# Altium schematic symbol library MKS_Gen_Lib1.SchLib: 15 symbols
Pins are listed as number, name and electrical type; pins without a type are passive.

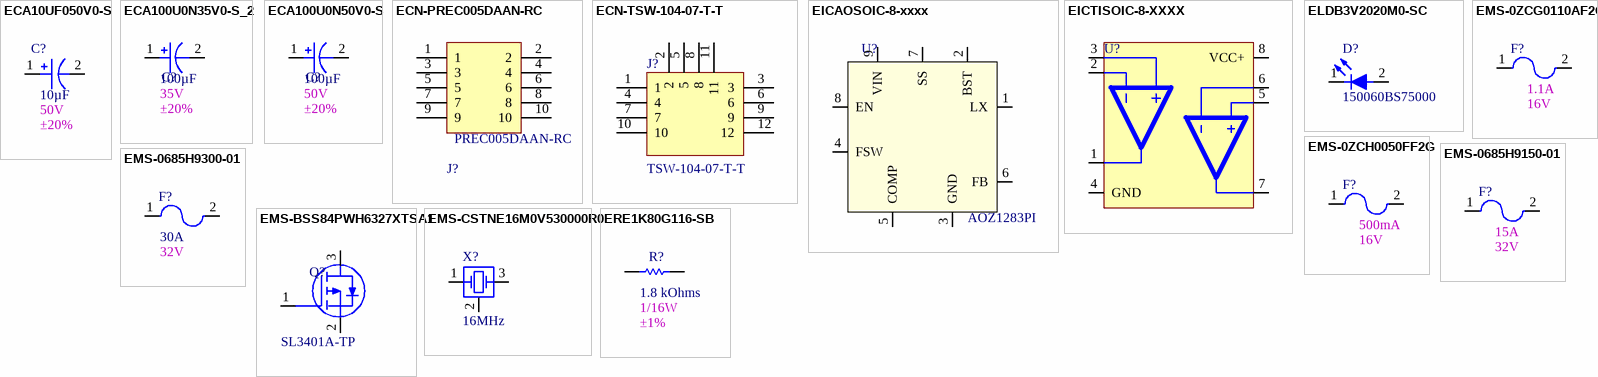
[diagram p0: symbols ECA10UF050V0-S to ERE1K80G116-SB]

## ECA10UF050V0-S
designator C?, comment value 10µF  2nd Auxiliary Field: ±20%  1st Auxiliary Field: 50V  (hidden comment: CAP 10 UF 20% 50 V)
Manufacturer: Würth Elektronik; Vendor Part Number: 732-8451-1-ND; Manufacturer Part Number: 865080642006; Internal Part Number: ECA10UF050V0-S; Vendor Name: Digi-Key; 3rd Auxiliary Field: ROHS3 Compliant; Component Height (mm): 5.50mm; Temp Co: -55°C ~ 105°C; Part Type: CAP 10 UF 20% 50 V
footprint CAPAE530X550N (Aluminum Electrolytic Capacitor, Body 5.30x5.30x5.50mm, IPC Medium Density)
pins: 1 +VE, 2 -VE

## ECA100U0N35V0-S_2
designator C?, comment value 100µF  1st Auxiliary Field: 35V  2nd Auxiliary Field: ±20%  (hidden comment: CAP ALUM 100UF 20% 35V SMD)
Manufacturer: SURGE; Manufacturer Part Number: VE-101M1VTR-0810S; Internal Part Number: ECA100U0N35V0-S_2; Vendor Part Number: 2616-VE-101M1VTR-0810S-ND; 3rd Auxiliary Field: ROHS3 Compliant; Component Height (mm): 10.50mm; Vendor Name: Digi-Key; Temp Co: -40°C ~ 85°C; Part Type: CAP ALUM 100UF 20% 35V SMD; 4th Auxiliary Field: *
footprint CAPAE830X1050N (Aluminum Electrolytic Capacitor, Body 8.30x8.30x10.50mm, IPC Medium Density)
pins: 1 +VE, 2 -VE

## ECA100U0N50V0-S
designator C?, comment value 100µF  1st Auxiliary Field: 50V  2nd Auxiliary Field: ±20%  (hidden comment: CAP ALUM 100UF 20% 50V SMD)
Manufacturer: SURGE; Manufacturer Part Number: VE-101M1HTR-0810S; Internal Part Number: ECA100U0N50V0-S; Vendor Part Number: 2616-VE-101M1HTR-0810S-ND; 3rd Auxiliary Field: ROHS3 Compliant; Component Height (mm): 10.50mm; Vendor Name: Digi-Key; Temp Co: -40°C ~ 85°C; Part Type: CAP ALUM 100UF 20% 50V SMD; 4th Auxiliary Field: *
footprint CAPAE830X1050N (Aluminum Electrolytic Capacitor, Body 8.30x8.30x10.50mm, IPC Medium Density)
pins: 1 +VE, 2 -VE

## ECN-PREC005DAAN-RC
designator J?, comment value PREC005DAAN-RC  (hidden comment: CONN HEADER VERT 10POS 2.54MM)
Manufacturer: Sullins Connector Solutions; Vendor Part Number: S2012EC-05-ND; Internal Part Number: ECN-PREC005DAAN-RC; 2nd Auxiliary Field: 0.100" (2.54mm); 3rd Auxiliary Field: ROHS3 Compliant; Vendor Name: Digi-Key; Component Height (mm): 8.34mm; Temp Co: -40°C ~ 105°C; 1st Auxiliary Field: 10Pos; Part Type: CONN HEADER VERT 10POS 2.54MM; Manufacturer Part Number: PREC005DAAN-RC
footprint HDRV10W64P254_2X5_1270X500X834P (CONN HEADER VERT 10POS 2.54MM)
pins: 1, 2, 3, 4, 5, 6, 7, 8, 9, 10

## ECN-TSW-104-07-T-T
designator J?, comment Manufacturer Part Number: TSW-104-07-T-T  (hidden comment: CONN HEADER VERT 12POS 2.54MM)
Manufacturer: Samtec Inc.; Internal Part Number: ECN-TSW-104-07-T-T; Vendor Part Number: SAM10848-ND; 2nd Auxiliary Field: 3 Rows; 3rd Auxiliary Field: ROHS3 Compliant; Component Height (mm): 8.38mm; Temp Co: -55°C ~ 105°C; Value: TSW-104-07-T-T; Vendor Name: Digi-Key; 1st Auxiliary Field: 12 Pos; Part Type: CONN HEADER VERT 12POS 2.54MM; 4th Auxiliary Field: *
footprint HDRV12W64P254_3X4_1016X762X838P (CONN HEADER VERT 12POS 2.54MM)
pins: 1, 2, 3, 4, 5, 6, 7, 8, 9, 10, 11, 12

## EICAOSOIC-8-xxxx
designator U?, comment value AOZ1283PI  (hidden comment: IC REG BUCK ADJUSTABLE 2.5A 8SO)
Manufacturer: Alpha & Omega Semiconductor Inc.; Internal Part Number: EICAOSOIC-8-xxxx; Vendor Part Number: 785-1803-1-ND; 3rd Auxiliary Field: ROHS3 Compliant; Component Height (mm): 5.80mm; Temp Co: -40°C ~ 85°C (TA); Vendor Name: Digi-Key; 1st Auxiliary Field: 3V~36V; Manufacturer Part Number: AOZ1283PI; Part Type: IC REG BUCK ADJUSTABLE 2.5A 8SO; 2nd Auxiliary Field: 2.5A
footprint SOIC127P600X170_HS-9N (SOIC, 8-Leads, Body 4.90x3.90mm, Pitch 1.27mm, Thermal Pad 3.60x2.61mm, IPC Medium Density)
pins: 1 LX (power), 2 BST (power), 3 GND (power), 4 FSW (power), 5 COMP (power), 6 FB (power), 7 SS (power), 8 EN (power), 9 VIN

## EICTISOIC-8-XXXX
designator U?, comment IC OPAMP GP 2 CIRCUIT 8SOIC  (value not drawn)
Manufacturer: Texas Instruments; Internal Part Number: EICTISOIC-8-XXXX; Vendor Part Number: 296-9571-1-ND; 3rd Auxiliary Field: ROHS3 Compliant; Component Height (mm): 1.75mm; Temp Co: -40°C ~ 125°C (TA); 4th Auxiliary Field: 40mA; Vendor Name: Digi-Key; 1st Auxiliary Field: 2.7V ~ 5.5V, ±1.35V ~ 2.75V; 2nd Auxiliary Field: 1MHz; Value: LMV358IDR; Part Type: IC OPAMP GP 2 CIRCUIT 8SOIC; Manufacturer Part Number: LMV358IDR
footprint SOIC127P600X175-8N (Footprint not found)
pins: 1 OUT, 2 1IN-, 3 1IN+, 4 GND, 5 2IN+, 6 2IN-, 7 2OUT, 8 VCC+

## ELDB3V2020M0-SC
designator D?, comment value 150060BS75000  (hidden comment: LED BLUE CLEAR 0603 SMD)
Manufacturer: Würth Elektronik; Vendor Part Number: 732-4966-1-ND; Internal Part Number: ELDB3V2020M0-SC; Vendor Name: Digi-Key; 1st Auxiliary Field: 3.2V; 2nd Auxiliary Field: 20mA; 3rd Auxiliary Field: ROHS3 Compliant; Component Height (mm): 0.80mm; Temp Co: -40°C ~ 85°C; Part Type: LED BLUE CLEAR 0603 SMD; Manufacturer Part Number: 150060BS75000; 4th Auxiliary Field: *
footprint SMDLED0603 (Footprint not found)
pins: 1 K, 2 A

## EMS-0ZCG0110AF2C
designator F?, comment 2nd Auxiliary Field: 1.1A  1st Auxiliary Field: 16V  (hidden comment: PTC RESET FUSE 16V 1.1A 1812)
Manufacturer Part Number: 0ZCG0110AF2C; Manufacturer: Bel Fuse Inc.; Internal Part Number: EMS-0ZCG0110AF2C; Vendor Part Number: 507-1767-1-ND; 3rd Auxiliary Field: RoHS3 Compliant; Component Height (mm): 0.90mm; Temp Co: -40°C ~ 85°C; 4th Auxiliary Field: 180 mOhms; Vendor Name: Digi-Key; Value: 0ZCG0110AF2C; Part Type: PTC RESET FUSE 16V 1.1A 1812
footprint SMDF1812 (Footprint not found)
pins: 1, 2

## EMS-0ZCH0050FF2G
designator F?, comment 2nd Auxiliary Field: 500mA  1st Auxiliary Field: 16V  (hidden comment: PTC RESET FUSE 16V 500MA 1210)
Manufacturer Part Number: 0ZCH0050FF2G; Manufacturer: Bel Fuse Inc.; Internal Part Number: EMS-0ZCH0050FF2G; Vendor Part Number: 507-1786-1-ND; 3rd Auxiliary Field: RoHS3 Compliant; Component Height (mm): 0.75mm; Temp Co: -40°C ~ 85°C; 4th Auxiliary Field: 900 mOhms; Vendor Name: Digi-Key; Value: 0ZCH0050FF2G; Part Type: PTC RESET FUSE 16V 500MA 1210
footprint SMDF1210 (Footprint not found)
pins: 1, 2

## EMS-0685H9150-01
designator F?, comment 2nd Auxiliary Field: 15A  1st Auxiliary Field: 32V  (hidden comment: FUSE BOARD MNT 15A 125VAC 32VDC)
Manufacturer Part Number: 0685H9150-01; Manufacturer: Bel Fuse Inc.; Internal Part Number: EMS-0685H9150-01; Vendor Part Number: 507-1944-1-ND; 3rd Auxiliary Field: RoHS3 Compliant; Component Height (mm): 0.65mm; Temp Co: -55°C ~ 125°C; Vendor Name: Digi-Key; Value: 0685H9150-01; Part Type: FUSE BOARD MNT 15A 125VAC 32VDC; 4th Auxiliary Field: 125V AC
footprint SMDF1206 (Footprint not found)
pins: 1, 2

## EMS-0685H9300-01
designator F?, comment value 30A  1st Auxiliary Field: 32V  (hidden comment: FUSE BOARD MNT 30A 125VAC 32VDC)
Manufacturer Part Number: 0685H9300-01; Manufacturer: Bel Fuse Inc.; Internal Part Number: EMS-0685H9300-01; Vendor Part Number: 507-1947-1-ND; 3rd Auxiliary Field: RoHS3 Compliant; Component Height (mm): 0.65mm; Temp Co: -55°C ~ 125°C; Vendor Name: Digi-Key; Part Type: FUSE BOARD MNT 30A 125VAC 32VDC; 4th Auxiliary Field: 125V AC; 2nd Auxiliary Field: 30A
footprint SMDF1206 (Footprint not found)
pins: 1, 2

## EMS-BSS84PWH6327XTSA1
designator Q?, comment value SL3401A-TP  (hidden comment: P-CHANNEL MOSFET, SOT-23-3L)
Manufacturer: Micro Commercial Co; Internal Part Number: EMS-SL3401A-TP; Vendor Part Number: 353-SL3401A-TPCT-ND; 1st Auxiliary Field: 30V; 2nd Auxiliary Field: 4.4A; 3rd Auxiliary Field: ROHS3 Compliant; Component Height (mm): 1.25mm; Temp Co: -55°C ~ 150°C (TJ); 4th Auxiliary Field: 1.5W; Vendor Name: Digi-Key; Part Type: P-CHANNEL MOSFET, SOT-23-3L; Manufacturer Part Number: SL3401A-TP
footprint SOT95P280X125-3N (Footprint not found)
pins: 1 G, 2 S, 3 D

## EMS-CSTNE16M0V530000R0
designator X?, comment value 16MHz  (hidden comment: CERAMIC RES 16.0000MHZ 15PF SMD)
Manufacturer Part Number: CSTNE16M0V530000R0; Manufacturer: Murata Electronics; Internal Part Number: EMS-CSTNE16M0V530000R0; Vendor Part Number: 490-17948-1-ND; Component Height (mm): 1mm; 3rd Auxiliary Field: ROHS3 Compliant; 2nd Auxiliary Field: 40 Ohms; Vendor Name: Digi-Key; Temp Co: -40°C ~ 85°C; Part Type: CERAMIC RES 16.0000MHZ 15PF SMD; 4th Auxiliary Field: *; 1st Auxiliary Field: 15pF
footprint XTAL_CSTNE16M0V530000R0 (CERAMIC RES 16.0000MHZ 15PF SMD)
pins: 1 OSC1, 2 GND, 3 OSC2

## ERE1K80G116-SB
designator R?, comment value 1.8 kOhms  1st Auxiliary Field: 1/16W  2nd Auxiliary Field: ±1%  (hidden comment: CRGCQ 0402 1K8 1%)
Manufacturer Part Number: CRGCQ0402F1K8; Manufacturer: TE Connectivity Passive Product; Internal Part Number: ERE1K80G116-SB; Vendor Part Number: A129630CT-ND; Component Height (mm): 0.40mm; 3rd Auxiliary Field: RoHS Compliant; Vendor Name: Digi-Key; Temp Co: -55°C ~ 155°C; Part Type: CRGCQ 0402 1K8 1%; 4th Auxiliary Field: *
footprint SMDR0402 (Footprint not found)
pins: 1, 2